# Altium footprint library KeyBored_PCB_ThomasLajoie_2025.PcbLib: 20 footprints (part 2 of 2)
Each footprint in its own frame and in the unit in brackets; x right, y up, seen from the top. Pads: shape width x height; smd on the part's side, far side on the other; paste and mask are expansions set on the pad; w line width, h text height; cw(c..) or ccw(c..) is an arc to the next point about the centre after c.
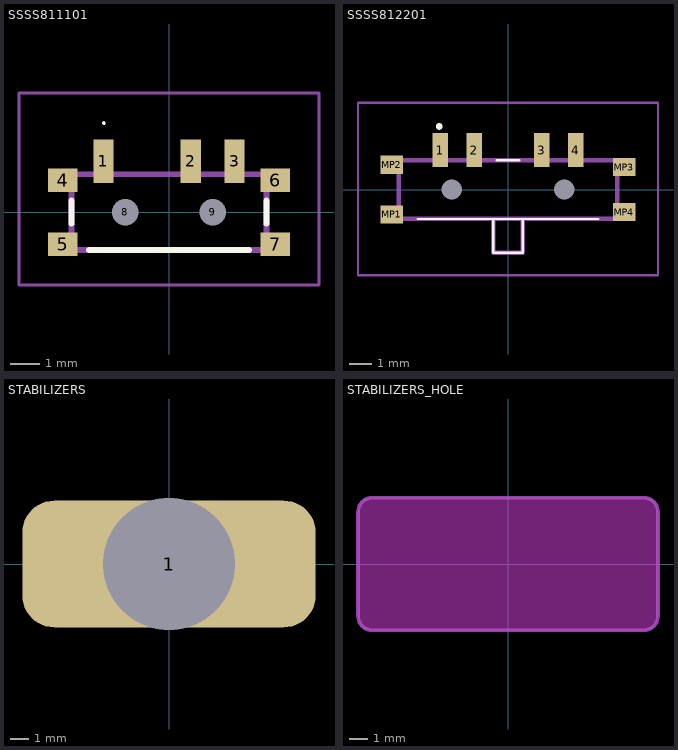
[diagram p1: the footprints below, top view; thin cyan lines are the x and y axes]

## SSSS811101 [mm]
pads (9):
  rect 0.7x1.5 smd: 1(-2.25,1.75) 2(0.75,1.75) 3(2.25,1.75)
  rect 1x0.8 smd: 4(-3.65,1.1) 5(-3.65,-1.1) 6(3.65,1.1) 7(3.65,-1.1)
  round 0.45 hole 0.9 unplated: 8(-1.5,0) 9(1.5,0)
Top Overlay:
  lines w0.063: -2.27,3.058 ccw(c-2.238,3.058) -2.206,3.058 ccw(c-2.238,3.058) -2.27,3.058
  lines w0.2: -3.35,-0.4 -3.35,0.4 ; -2.748,-1.3 2.748,-1.3 ; 3.35,-0.4 3.35,0.4
Mechanical 13:
  lines w0.2: -3.35,-1.3 3.35,-1.3 3.35,1.3 -3.35,1.3 -3.35,-1.3
Mechanical 15:
  lines w0.1: -5.15,-2.5 5.15,-2.5 5.15,4.09 -5.15,4.09 -5.15,-2.5
3D body "SSSS811101.stp": height 1.4, standoff -0.5, extent -3.85,-2.8 3.85,2.2

## SSSS812201 [mm]
pads (10):
  rect 0.7x1.5 smd: 1(-3,1.75) 2(-1.5,1.75) 3(1.5,1.75) 4(3,1.75)
  round 0.45 hole 0.9 unplated: MH1(-2.5,0) MH2(2.5,0)
  rect 1x0.8 smd: MP1(-5.15,-1.1) MP2(-5.15,1.1) MP3(5.15,1) MP4(5.15,-1)
Top Overlay:
  lines w0.1: -4,-1.3 4,-1.3 -4,-1.3 ; -0.65,-2.8 0.65,-2.8 0.65,-1.3 -0.65,-1.3 -0.65,-2.8 ; -0.5,1.3 0.5,1.3 -0.5,1.3
  lines w0.2: -3.1,2.8 ccw(c-3.05,2.8) -3,2.8 ; -3.1,2.8 cw(c-3.05,2.8) -3,2.8 ; -3.1,2.8 ccw(c-3.05,2.8) -3,2.8
Mechanical 13:
  lines w0.2: -4.85,-1.3 4.85,-1.3 4.85,1.3 -4.85,1.3 -4.85,-1.3 ; -0.65,-2.8 0.65,-2.8 0.65,-1.3 -0.65,-1.3 -0.65,-2.8
Mechanical 15:
  lines w0.1: -6.65,-3.8 6.65,-3.8 6.65,3.85 -6.65,3.85 -6.65,-3.8
3D body "SSSS812201.stp": height 1.4, standoff -0.5, extent -5.35,-2.8 5.35,2.2

## STABILIZERS [mm]
pads (1):
  rrect50% 15.5x6.7 hole 7 square unplated: 1(0,0)

## STABILIZERS_HOLE [mm]
Keep-Out Layer:
  board cut-out: -7.925,-2.75 -7.925,2.75 -7.925,2.824 -7.896,2.969 -7.84,3.105 -7.758,3.228 -7.653,3.333 -7.53,3.415 -7.394,3.471 -7.249,3.5 -7.175,3.5 7.175,3.5 7.249,3.5 7.394,3.471 7.53,3.415 7.653,3.333 7.758,3.228 7.84,3.105 7.896,2.969 7.925,2.824 7.925,2.75 7.925,-2.75 7.925,-2.824 7.896,-2.969 7.84,-3.105 7.758,-3.228 7.653,-3.333 7.53,-3.415 7.394,-3.471 7.249,-3.5 7.175,-3.5 -7.175,-3.5 -7.249,-3.5 -7.394,-3.471 -7.53,-3.415 -7.653,-3.333 -7.758,-3.228 -7.84,-3.105 -7.896,-2.969 -7.925,-2.824
Mechanical 13:
  lines w0.2: -7.925,-2.75 ccw(c-7.175,-2.75) -7.175,-3.5 7.175,-3.5 ccw(c7.175,-2.75) 7.925,-2.75 7.925,2.75 ccw(c7.175,2.75) 7.175,3.5 -7.175,3.5 ccw(c-7.175,2.75) -7.925,2.75 -7.925,-2.75